# Altium schematic symbol library HDMI.SchLib: 1 symbol
Pins are listed as number, name and electrical type; pins without a type are passive.

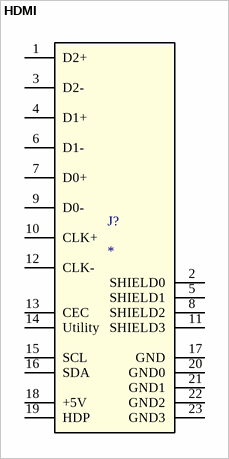
[diagram p0: symbol HDMI]

## HDMI
designator J?
2001-1-2-21-00-BK; Mfr_Name: CNC Tech; RefDes: RefDes; Type: Type
footprint CONN19_2001-1-2-21-00-BK_CNC
pins: 1 D2+, 2 SHIELD0, 3 D2-, 4 D1+, 5 SHIELD1, 6 D1-, 7 D0+, 8 SHIELD2, 9 D0-, 10 CLK+, 11 SHIELD3, 12 CLK-, 13 CEC, 14 Utility, 15 SCL, 16 SDA, 17 GND, 18 +5V, 19 HDP, 20 GND0, 21 GND1, 22 GND2, 23 GND3